# Altium schematic symbol library Capacitor.SchLib: 20 symbols
Pins are listed as number, name and electrical type; pins without a type are passive.

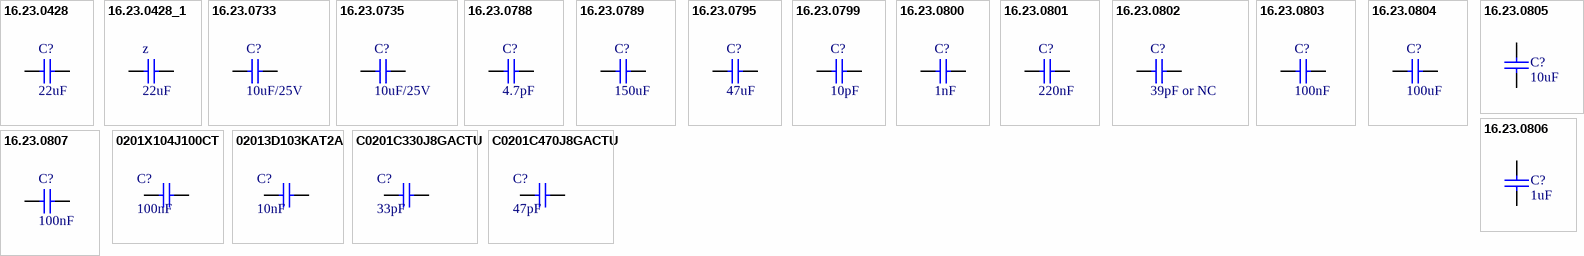
[diagram p0: symbols 16.23.0428 to C0201C470J8GACTU]

## 16.23.0428
designator C?  (value not drawn)
CC MUL 22uF 16V X5R 20% SMD 0805
footprint 16.23.0428 (CC MUL 22uF 16V X5R 20% SMD 0805)
pins: 1, 2
text: 22uF

## 16.23.0428_1
designator z, comment 16.23.0428  (value not drawn)
CC MUL 22uF 16V X5R 20% SMD 0805
footprint 16.23.0428 (CC MUL 22uF 16V X5R 20% SMD 0805)
pins: 1, 2
text: 22uF

## 16.23.0733
designator C?  value 10uF/25V  (hidden comment: 16.23.0733)
CAPACITOR CERAMICO MULTICAMADAS 10uF 25V 20% SMD 0603 X5R; Part Number: GRM188R61E106MA73; Fabricante: Murata
footprint 16.23.0733 (CAPACITOR CERAMICO MULTICAMADAS 10uF 25V X5R 20% SMD 0603)
pins: 1, 2

## 16.23.0735
designator C?  value 10uF/25V  (hidden comment: 16.23.0735)
CAPACITOR CERAMICO MULTICAMADAS 10uF 25V 10% SMD 0805 X5R; Part Number: GRM21BR61E106KA73; Fabricante: Murata
footprint 16.23.0735 (CAPACITOR CERAMICO MULTICAMADAS 10uF 25V X5R 10% SMD 0805)
pins: 1, 2

## 16.23.0788
designator C?  (value not drawn)
CAPACITOR CERAMICO MULTICAMADA 4.7PF 50V C0G/NP0 0402
footprint 16.23.0788 (CAPACITOR CERAMICO MULTICAMADA 4.7PF 50V C0G/NP0 0402)
pins: 1, 2
text: 4.7pF

## 16.23.0789
designator C?  (value not drawn)
CAPACITOR CERAMICO 150uF 20% 6.3V X5R SMD 1206
footprint 16.23.0789 (CAPACITOR CERAMICO 150uF 20% 6.3V X5R SMD 1206)
pins: 1, 2
text: 150uF

## 16.23.0795
designator C?  (value not drawn)
CERAMICO 47uF 10% 6.3V X5R SMD 1206
footprint 16.23.0795 (CAPACITOR CERAMICO 47uF 10% 6.3V X5R SMD 1206)
pins: 1, 2
text: 47uF

## 16.23.0799
designator C?  (value not drawn)
CAPACITOR CERAMICO 10pF 25V 5% C0G SMD 0201
footprint 16.23.0799 (CAPACITOR CERAMICO 10pF 25V 5% C0G SMD 0201)
pins: 1, 2
text: 10pF

## 16.23.0800
designator C?  (value not drawn)
CAPACITOR CERAMICO 1nF 25V 5% X7R SMD 0201
footprint 16.23.0800 (CAPACITOR CERAMICO 1nF 25V 5% X7R SMD 0201)
pins: 1, 2
text: 1nF

## 16.23.0801
designator C?  (value not drawn)
CAPACITOR CERAMICO 220nF 16V 10% X5R SMD 0201
footprint 16.23.0801 (CAPACITOR CERAMICO 220nF 16V 10% X5R SMD 0201)
pins: 1, 2
text: 220nF

## 16.23.0802
designator C?  (value not drawn)
CAPACITOR CERAMICO 39pF 100V 5% C0G SMD 0201
footprint 16.23.0802 (CAPACITOR CERAMICO 39pF 100V 5% C0G SMD 0201)
pins: 1, 2
text: 39pF or NC

## 16.23.0803
designator C?  (value not drawn)
CAPACITOR CERAMICO 100nF 16V 10% X5R SMD 0201
footprint 16.23.0803 (CAPACITOR CERAMICO 100nF 16V 10%% X5R SMD 0201)
pins: 1, 2
text: 100nF

## 16.23.0804
designator C?  value 100uF  (hidden comment: 16.23.0804)
CAPACITOR CERAMICO 100uF 6.3V 10% X5R SMD 1206
footprint 16.23.0804 (CAPACITOR CERAMICO 100uF 6.3V 10%% X5R SMD 1206)
pins: 1, 2
1 alternate drawing of the same symbol

## 16.23.0805
designator C?  value 10uF  (hidden comment: 16.23.0805)
CAPACITOR CERAMICO MULTICAMADAS 10uF 10V X5R 10% SMD 0603
footprint 16.23.0805 (CAPACITOR CERAMICO MULTICAMADAS 10uF 10V X5R 10% SMD 0603)
pins: 1, 2

## 16.23.0806
designator C?  value 1uF  (hidden comment: 16.23.0806)
CAPACITOR CERAMICO MULTICAMADAS 1uF 10V X5R 20% SMD 0201
footprint 16.23.0806 (CAPACITOR CERAMICO MULTICAMADAS 1uF 10V X5R 20% SMD 0201)
pins: 1, 2

## 16.23.0807
designator C?  value 100nF  (hidden comment: 16.23.0807)
CAPACITOR CERAMICO MULTICAMADAS 100nF 50V X7R 10% SMD 0402
footprint 16.23.0807 (CAPACITOR CERAMICO MULTICAMADAS 100nF 50V X7R 10% SMD 0402)
pins: 1, 2

## 0201X104J100CT
designator C?, comment 100nF
CAPACITOR CERAMICO 100nF 10V 5% X5R SMD 0201; Manufacturer: Walsin; Part Number: 0201X104J100CT; Library Control - Checked Footprint: Yes; Library Control - Last Project that Used: PCIC e SIBB; Library Control - Person that Checked Footprint: Stéfany, Lucas, César, Thaís; Supplier 1: -; Category: Ceramic Capacitor; Price: -; Supplier Part Number 1: -; Library Ref: Capacitor; Operating Temperature: -55 C ~ 85 C; Package / Case: 0201 (0603 mm); Size / Dimension: 0,60 L x 0,30 W x 0,30 H; Tolerance: 5%; Value: 100nF; Voltage - Rated: 10V; ESR: -; Dieletric: X5R; Library Control - Checked Schematic: Yes; Library Control - Last Update: 28/06/2022 23:00; Library Control - Person that Checked Schematic: Stéfany, Lucas, César, Thaís; Library Control - Person that did the Last Update Footprint: Stéfany, Lucas, César, Thaís; Library Control - Person that did the Last Update Schematic: Stéfany, Lucas, César, Thaís; ComponentLink1Description: Datasheet; ComponentLink1URL: https://br.mouser.com/datasheet/2/210/WTC_MLCC_General_Purpose-1534899.pdf
footprint 0201 (Adicionado)
pins: 1, 2

## 02013D103KAT2A
designator C?, comment 10nF
CAPACITOR CERAMICO 10nF 25V 10% C0G SMD 0201; Manufacturer: AVX; Part Number: 02013D103KAT2A; Library Control - Checked Footprint: Yes; Library Control - Last Project that Used: PCIC e SIBB; Library Control - Person that Checked Footprint: César, Lucas, Stéfany, ThaÍs; Supplier 1: -; Category: Ceramic Capacitor; Price: -; Supplier Part Number 1: -; Library Ref: Capacitor; Operating Temperature: -55 C ~ 85 C; Package / Case: 0201 (0603 mm); Size / Dimension: 0,60 L x 0,30 W x 0,30 H; Tolerance: 10%; Value: 10nF; Voltage - Rated: 25V; ESR: -; Dieletric: C0G; Library Control - Checked Schematic: Yes; Library Control - Last Update: 28/06/2022 22:45; Library Control - Person that Checked Schematic: César, Lucas, Stéfany, ThaÍs; Library Control - Person that did the Last Update Footprint: César, Lucas, Stéfany, ThaÍs; Library Control - Person that did the Last Update Schematic: César, Lucas, Stéfany, ThaÍs; ComponentLink1Description: Datasheet; ComponentLink1URL: https://br.mouser.com/datasheet/2/40/AVX_cx5r_776519-1853698.pdf
footprint 0201 (Adicionado)
pins: 1, 2

## C0201C330J8GACTU
designator C?, comment 33pF
CAPACITOR CERAMICO MULTICAMADAS 33pF 10V 5% C0G SMD 0201; Manufacturer: KEMET; Part Number: C0201C330J8GACTU; Library Control - Checked Footprint: Yes; Library Control - Last Project that Used: PCIC e SIBB; Library Control - Person that Checked Footprint: César, Lucas, Stéfany, ThaÍs; Supplier 1: -; Category: Multilayer Ceramic Capacitor; Price: -; Supplier Part Number 1: -; Library Ref: Capacitor; Operating Temperature: -55 C ~ 125 C; Package / Case: 0201 (0603 mm); Size / Dimension: 0,60 L x 0,30 W x 0,30 H; Tolerance: 5%; Value: 33pF; Voltage - Rated: 10V; ESR: -; Dieletric: C0G; Library Control - Checked Schematic: Yes; Library Control - Last Update: 27/06/2022 20:06; Library Control - Person that Checked Schematic: César, Lucas, Stéfany, ThaÍs; Library Control - Person that did the Last Update Footprint: César, Lucas, Stéfany, ThaÍs; Library Control - Person that did the Last Update Schematic: César, Lucas, Stéfany, ThaÍs; ComponentLink1Description: Datasheet; ComponentLink1URL: https://br.mouser.com/datasheet/2/212/KEM_C1003_C0G_SMD-1101588.pdf
footprint 0201 (Adicionado)
pins: 1, 2

## C0201C470J8GACTU
designator C?, comment 47pF
CAPACITOR CERAMICO MULTICAMADAS 47pF 10V 5% C0G SMD 0201; Manufacturer: KEMET; Part Number: C0201C470J8GACTU; Library Control - Checked Footprint: Yes; Library Control - Last Project that Used: PCIC e SIBB; Library Control - Person that Checked Footprint: César, Lucas, Stéfany, ThaÍs; Supplier 1: -; Category: Multilayer Ceramic Capacitor; Price: -; Supplier Part Number 1: -; Library Ref: Capacitor; Operating Temperature: -55 C ~ 125 C; Package / Case: 0201 (0603 mm); Size / Dimension: 0,60 L x 0,30 W x 0,30 H; Tolerance: 5%; Value: 47pF; Voltage - Rated: 10V; ESR: -; Dieletric: C0G; Library Control - Checked Schematic: Yes; Library Control - Last Update: 27/06/2022 19:33; Library Control - Person that Checked Schematic: César, Lucas, Stéfany, ThaÍs; Library Control - Person that did the Last Update Footprint: César, Lucas, Stéfany, ThaÍs; Library Control - Person that did the Last Update Schematic: César, Lucas, Stéfany, ThaÍs; ComponentLink1Description: Datasheet; ComponentLink1URL: https://br.mouser.com/datasheet/2/212/KEM_C1003_C0G_SMD-1101588.pdf
footprint 0201 (Adicionado)
pins: 1, 2